# Altium footprint library Connector.PcbLib: 23 footprints (part 1 of 2)
Each footprint in its own frame and in the unit in brackets; x right, y up, seen from the top. Pads: shape width x height; smd on the part's side, far side on the other; paste and mask are expansions set on the pad; w line width, h text height; cw(c..) or ccw(c..) is an arc to the next point about the centre after c.
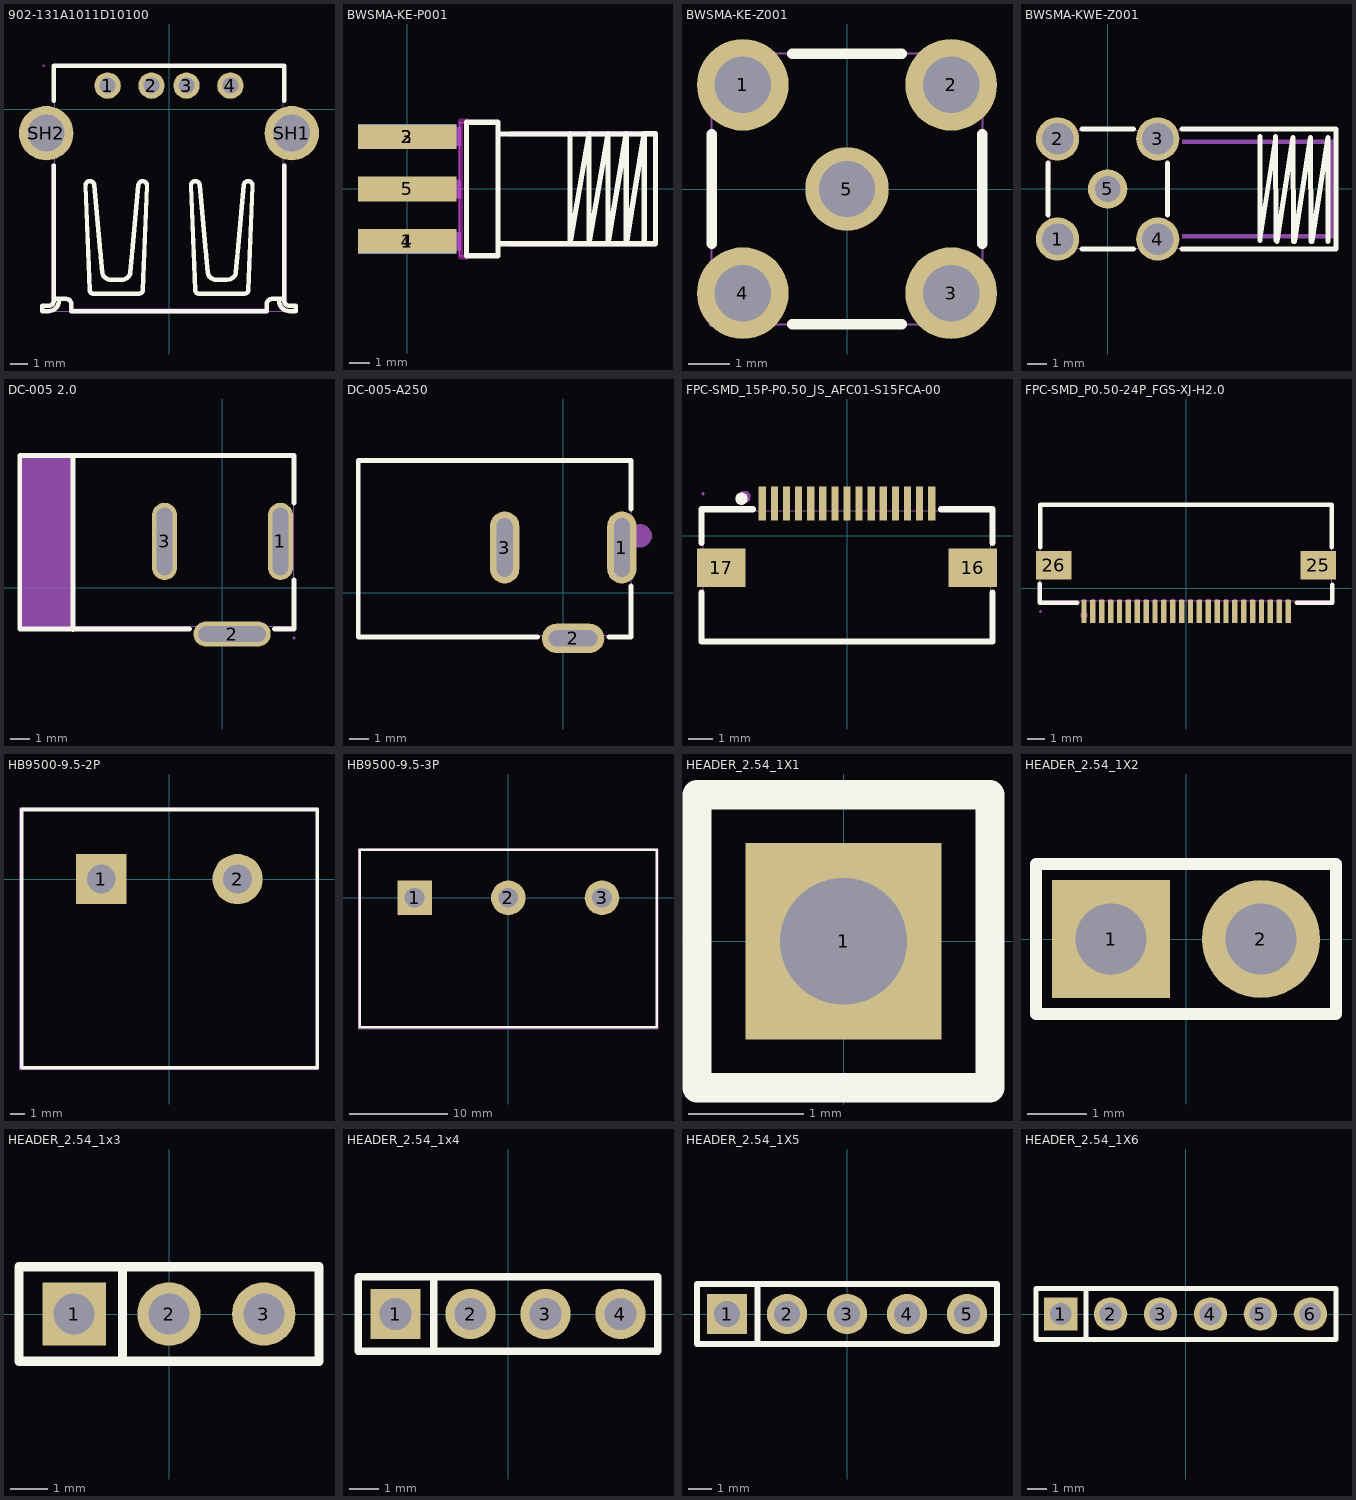
[diagram p0: the footprints below, top view; thin cyan lines are the x and y axes]

## 902-131A1011D10100 [mm]
pads (6):
  round 1.5 hole 0.9 copper offset 0,0: 1(-3.5,1.355) 4(3.5,1.355)
  round 1.5 hole 0.9: 2(-1,1.355) 3(1,1.355)
  round 3.1 hole 2.1: SH1(7,-1.355) SH2(-7,-1.355)
Top Overlay:
  drawing of 192 lines, arcs and shapes, not listed
Mechanical 6:
  region: -6.697,-10.9 -6.697,-3.2 -6.697,-3.147 -6.622,-3.073 -6.517,-3.073 -6.443,-3.147 -6.443,-3.2 -6.443,-10.9 -6.443,-10.953 -6.517,-11.027 -6.622,-11.027 -6.697,-10.953
  region: -5.563,-11.378 0,-11.378 0.053,-11.378 0.127,-11.453 0.127,-11.558 0.053,-11.632 0,-11.632 -5.563,-11.632 -5.615,-11.632 -5.69,-11.558 -5.69,-11.453 -5.615,-11.378
  region: 5.563,-11.632 0,-11.632 -0.053,-11.632 -0.127,-11.558 -0.127,-11.453 -0.053,-11.378 0,-11.378 5.563,-11.378 5.616,-11.378 5.69,-11.453 5.69,-11.558 5.616,-11.632
  region: 6.443,-10.9 6.443,-3.2 6.443,-3.147 6.517,-3.073 6.623,-3.073 6.697,-3.147 6.697,-3.2 6.697,-10.9 6.697,-10.953 6.623,-11.027 6.517,-11.027 6.443,-10.953
Mechanical 15:
  region: -7.15,-0.505 -7.15,-2.205 -6.495,-2.205 -6.495,-0.505
  region: 7.15,-0.505 7.15,-2.205 6.495,-2.205 6.495,-0.505
  region: -6.85,-0.505 -6.85,-2.205 -7.15,-2.205 -7.15,-0.505
  region: 7.15,-0.505 7.15,-2.205 6.85,-2.205 6.85,-0.505
  region: -3.25,1.23 -3.75,1.23 -3.75,1.48 -3.25,1.48
  region: -0.75,1.23 -1.25,1.23 -1.25,1.48 -0.75,1.48
  region: 1.25,1.23 0.75,1.23 0.75,1.48 1.25,1.48
  region: 3.75,1.23 3.25,1.23 3.25,1.48 3.75,1.48
  region: -7.09,2.495 -7.09,2.52 -7.125,2.555 -7.175,2.555 -7.21,2.519 -7.21,2.495 -7.21,2.47 -7.175,2.435 -7.125,2.435 -7.09,2.47
  lines w0.051: -6.5,-11.505 6.5,-11.505 6.5,2.495 -6.5,2.495 -6.5,-11.505
3D body "902-131A1011D10100.STEP": height 7.6, standoff -3.75, extent -7.774,-11.5 7.774,2.5

## BWSMA-KE-P001 [mm]
pads (5):
  rect 4.8x1.2 smd: 1(0,-2.55) 2(0,2.55) 5(0,0)
  rect 4.8x1.2 smd far side: 3(0,2.55) 4(0,-2.55)
Top Overlay:
  lines w0.254: 2.894,-3.25 4.418,-3.25 4.418,3.25 2.894,3.25 2.894,-3.175 ; 4.418,-2.667 11.546,-2.667 ; 4.418,2.669 11.546,2.689 ; 7.935,2.689 7.935,-2.667 8.86,2.689 8.86,-2.667 9.786,2.689 9.786,-2.667 10.675,2.689 10.675,-2.667 11.546,2.689 ; 12.1,-2.68 12.1,2.7 12.089,2.689 11.546,2.689 ; 12.1,-2.667 11.546,-2.667 ; 11.546,-2.667 11.546,2.689
Keep-Out Layer:
  lines w0.254: 2.6,-3.3 2.9,-3.3 2.6,-3.3 ; 2.6,-3.3 2.6,3.3 ; 2.6,-3.3 2.6,3.3 ; 2.6,3.3 2.9,3.3 2.6,3.3
Mechanical 6:
  region: 5.03,2.81 5.03,2.57 11.98,2.57 11.98,-2.55 5.03,-2.55 5.03,-2.79 12.1,-2.79 12.22,-2.67 12.22,2.72 12.13,2.81
Mechanical 15:
  region: -1.4,3 2.6,3 2.6,2.1 -1.4,2.1
  region: -1.4,0.45 2.6,0.45 2.6,-0.45 -1.4,-0.45
  region: -1.4,-2.1 2.6,-2.1 2.6,-3 -1.4,-3
  region: -1.4,3 2.6,3 2.6,2.1 -1.4,2.1
  region: -1.4,-2.1 2.6,-2.1 2.6,-3 -1.4,-3
  region: 4.478,-3.25 4.477,-3.226 4.442,-3.193 4.394,-3.193 4.359,-3.226 4.358,-3.25 4.359,-3.274 4.394,-3.308 4.442,-3.308 4.477,-3.274
  lines w0.051: 2.55,-3.25 2.55,3.25 4.418,3.25 4.418,-3.25 2.55,-3.25
3D body "BWSMA-KE-P001.STEP": height 4.95, standoff -1.55, extent -1.25,-3.25 12.25,3.251

## BWSMA-KE-Z001 [mm]
pads (5):
  round 2.2 hole 1.35: 1(-2.5,2.5) 2(2.5,2.5) 3(2.5,-2.5) 4(-2.5,-2.5)
  round 2 hole 1.35: 5(0,0)
Top Overlay:
  lines w0.254: -3.25,-1.316 -3.25,1.316 ; -1.316,-3.25 1.316,-3.25 ; -1.316,3.25 1.316,3.25 ; 3.25,-1.316 3.25,1.316
Mechanical 15:
  region: -3.19,-3.25 -3.191,-3.226 -3.226,-3.193 -3.274,-3.193 -3.309,-3.226 -3.31,-3.25 -3.309,-3.274 -3.274,-3.307 -3.226,-3.307 -3.191,-3.274
  region: 0.425,0 0.424,0.084 0.359,0.239 0.24,0.358 0.084,0.422 -0.084,0.422 -0.24,0.358 -0.359,0.239 -0.425,0.084 -0.425,0 -0.425,-0.084 -0.359,-0.239 -0.24,-0.358 -0.084,-0.422 0.084,-0.422 0.24,-0.358 0.359,-0.239 0.424,-0.084
  region: 2.1,-2.1 3,-2.1 3,-3 2.1,-3
  region: 2.1,3 3,3 3,2.1 2.1,2.1
  region: -3,3 -2.1,3 -2.1,2.1 -3,2.1
  region: -3,-2.1 -2.1,-2.1 -2.1,-3 -3,-3
  lines w0.051: -3.25,-3.25 3.25,-3.25 3.25,3.25 -3.25,3.25 -3.25,-3.25
3D body "BWSMA-KE-Z001.STEP": height 10.15, standoff -3.45, extent -3.25,-3.25 3.25,3.251

## BWSMA-KWE-Z001 [mm]
pads (5):
  round 2.2 hole 1.6: 1(-2.55,-2.55) 2(-2.55,2.55) 3(2.55,2.55)
  round 2.2 hole 1.6 copper offset 0,0: 4(2.55,-2.55)
  round 2 hole 1.3: 5(0,0)
Top Overlay:
  lines w0.254: -3.048,-1.316 -3.048,1.316 ; -1.316,-3.048 1.316,-3.048 ; -1.316,3.048 1.316,3.048 ; 3.048,-1.316 3.048,1.316 ; 3.784,-3.048 11.63,-3.048 ; 3.784,3.048 11.6,3.048 ; 7.747,2.667 7.747,-2.633 8.56,2.667 8.566,-2.633 ; 8.636,-2.667 9.449,2.633 9.455,-2.667 ; 9.525,-2.667 10.338,2.633 10.344,-2.667 ; 10.414,-2.667 11.227,2.633 11.233,-2.667 ; 11.63,-3 11.63,-2.62 11.63,2.68 11.63,3.048
Mechanical 6:
  region: 3.8,2.5 11.5,2.5 11.5,2.3 3.8,2.3
  region: 3.8,-2.5 11.5,-2.5 11.5,-2.3 3.8,-2.3
  region: 11.5,2.3 11.5,-2.3 11.3,-2.3 11.3,2.3
Mechanical 15:
  region: -2.94,-3.017 -2.941,-2.993 -2.976,-2.959 -3.024,-2.959 -3.059,-2.993 -3.06,-3.017 -3.059,-3.041 -3.024,-3.075 -2.976,-3.075 -2.941,-3.041
  region: 0.45,0 0.449,0.089 0.379,0.252 0.253,0.377 0.089,0.444 -0.089,0.444 -0.253,0.377 -0.379,0.252 -0.449,0.089 -0.45,0 -0.449,-0.089 -0.379,-0.252 -0.253,-0.376 -0.089,-0.444 0.089,-0.444 0.253,-0.376 0.379,-0.252 0.449,-0.089
  region: -3,3 -2.1,3 -2.1,2.1 -3,2.1
  region: -3,-2.1 -2.1,-2.1 -2.1,-3 -3,-3
  region: 2.1,-2.1 3,-2.1 3,-3 2.1,-3
  region: 2.1,3 3,3 3,2.1 2.1,2.1
  lines w0.051: -2.941,-3.017 11.591,-3.017 11.591,2.996 -2.932,2.996 -2.941,-2.538 -2.941,-3.017
3D body "BWSMA-KWE-Z001.STEP": height 9.72, standoff -3.45, extent -3,-3.175 11.5,3.175

## DC-005 2.0 [mm]
pads (3):
  oval 1.3x4 hole 0.8 slot 3.5 at 90 deg: 1(3,2.4) 3(-3,2.4)
  oval 4x1.3 hole 0.8 slot 3.5 at 0 deg: 2(0.5,-2.4)
Top Overlay:
  lines w0.254: -10.5,6.845 -10.5,-2.147 -2.335,-2.147 -1.702,-2.147 ; -10.5,6.853 3.7,6.853 3.7,4.388 ; -7.744,-2.155 -7.744,6.845 ; 2.702,-2.147 3.7,-2.147 3.7,0.412
Mechanical 6:
  region: -10.541,6.858 -7.747,6.858 -7.747,-2.159 -10.541,-2.159
Mechanical 15:
  region: 3.15,3.65 3.15,1.15 2.85,1.15 2.85,3.65
  region: -3.15,1.15 -3.15,3.65 -2.85,3.65 -2.85,1.15
  region: -0.75,-2.2 1.75,-2.2 1.75,-2.6 -0.75,-2.6
  region: -0.75,-2.6 1.75,-2.6 1.75,-1.9 -0.75,-1.9
  region: 3.76,-2.6 3.759,-2.576 3.724,-2.542 3.676,-2.542 3.641,-2.576 3.64,-2.6 3.641,-2.624 3.676,-2.658 3.724,-2.658 3.759,-2.624
  lines w0.051: -10.5,-2 3.7,-2 3.7,6.8 -10.5,6.8 -10.5,-2
3D body "DC-005 2.0.STEP": height 11.05, standoff -3.75, extent -10.25,-2.425 3.75,6.925

## DC-005-A250 [mm]
pads (3):
  oval 1.5x3.7 hole 0.8 slot 3 at 90 deg paste+0 mask+0.05: 1(3,2.325) 3(-3,2.325)
  oval 3.2x1.5 hole 0.8 slot 2.5 at 0 deg paste+0 mask+0.05: 2(0.5,-2.325)
Top Overlay:
  lines w0.254: -1.328,-2.247 -10.5,-2.247 -10.5,6.77 3.47,6.77 3.47,4.286 ; 2.328,-2.247 3.47,-2.247 3.47,0.364
Mechanical 6:
  circle w0.6: c3.937,2.921 r0.3
Mechanical 15:
  region: 3.547,6.825 3.547,6.85 3.512,6.885 3.463,6.885 3.427,6.85 3.427,6.825 3.427,6.8 3.463,6.765 3.512,6.765 3.548,6.8
  region: -3.15,3.575 -2.85,3.575 -2.85,1.075 -3.15,1.075
  region: 2.85,3.575 3.15,3.575 3.15,1.075 2.85,1.075
  region: -0.5,-2.172 1.5,-2.172 1.5,-2.472 -0.5,-2.472
  lines w0.051: -10.512,-2.175 -10.512,6.825 3.488,6.825 3.488,-2.175 -10.512,-2.175
3D body "DC-005-A250.STEP": height 11.05, standoff -3.95, extent -10.5,-2.4 3.5,6.9

## FPC-SMD_15P-P0.50_JS_AFC01-S15FCA-00 [mm]
pads (17):
  rect 0.3x1.4 smd paste+0 mask+0.05: 1(-3.5,1.325) 2(-3,1.325) 3(-2.5,1.325) 4(-2,1.325) 5(-1.5,1.325) 6(-1,1.325) 7(-0.5,1.325) 8(0,1.325) 9(0.5,1.325) 10(1,1.325) 11(1.5,1.325) 12(2,1.325) 13(2.5,1.325) 14(3,1.325) 15(3.5,1.325)
  rect 2x1.6 smd: 16(5.2,-1.325) 17(-5.2,-1.325)
Top Overlay:
  circle w0.254: c-4.362,1.524 r0.127
  lines w0.254: -6.013,-2.356 -6.013,-4.373 6.013,-4.373 6.013,-2.356 6.013,-2.491 ; -6.013,-0.294 -6.013,1.088 -3.881,1.088 ; 3.881,1.088 6.013,1.088 6.013,-0.294
Mechanical 6:
  circle w0.254: c-4.234,1.598 r0.127
Mechanical 15:
  region: -4.45,-0.825 -4.45,-1.825 -5.95,-1.825 -5.95,-0.825
  region: 5.95,-0.825 5.95,-1.825 4.45,-1.825 4.45,-0.825
  region: 3.6,0.727 3.4,0.727 3.4,1.727 3.6,1.727
  region: 3.1,0.727 2.9,0.727 2.9,1.727 3.1,1.727
  region: 2.6,0.727 2.4,0.727 2.4,1.727 2.6,1.727
  region: 2.1,0.727 1.9,0.727 1.9,1.727 2.1,1.727
  region: 1.6,0.727 1.4,0.727 1.4,1.727 1.6,1.727
  region: 1.1,0.727 0.9,0.727 0.9,1.727 1.1,1.727
  region: 0.6,0.727 0.4,0.727 0.4,1.727 0.6,1.727
  region: 0.1,0.727 -0.1,0.727 -0.1,1.727 0.1,1.727
  region: -0.4,0.727 -0.6,0.727 -0.6,1.727 -0.4,1.727
  region: -0.9,0.727 -1.1,0.727 -1.1,1.727 -0.9,1.727
  region: -1.4,0.727 -1.6,0.727 -1.6,1.727 -1.4,1.727
  region: -1.9,0.727 -2.1,0.727 -2.1,1.727 -1.9,1.727
  region: -2.4,0.727 -2.6,0.727 -2.6,1.727 -2.4,1.727
  region: -2.9,0.727 -3.1,0.727 -3.1,1.727 -2.9,1.727
  region: -3.4,0.727 -3.6,0.727 -3.6,1.727 -3.4,1.727
  region: -5.89,1.727 -5.891,1.752 -5.926,1.786 -5.975,1.786 -6.01,1.752 -6.01,1.727 -6.01,1.703 -5.975,1.668 -5.926,1.668 -5.891,1.703 -5.89,1.727
  lines w0.051: -5.95,-4.373 5.95,-4.373 5.95,1.027 -5.95,1.027 -5.95,-4.373
3D body "AFC01-S15FCA-00.STEP": height 2.02, standoff 0, extent -5.95,-4.392 5.95,1.708

## FPC-SMD_P0.50-24P_FGS-XJ-H2.0 [mm]
pads (26):
  rect 0.3x1.3 smd: 1(-5.748,-1.301) 2(-5.248,-1.301) 3(-4.748,-1.301) 4(-4.248,-1.301) 5(-3.748,-1.301) 6(-3.248,-1.301) 7(-2.748,-1.301) 8(-2.248,-1.301) 9(-1.748,-1.301) 10(-1.248,-1.301) 11(-0.748,-1.301) 12(-0.248,-1.301) 13(0.252,-1.301) 14(0.752,-1.301) 15(1.252,-1.301) 16(1.752,-1.301) 17(2.252,-1.301) 18(2.752,-1.301) 19(3.252,-1.301) 20(3.752,-1.301) 21(4.252,-1.301) 22(4.752,-1.301) 23(5.252,-1.301) 24(5.752,-1.301)
  rect 2x1.6 smd: 25(7.45,1.301) 26(-7.45,1.301)
Top Overlay:
  lines w0.254: -8.25,0.27 -8.25,-0.8 -6.129,-0.8 ; -8.199,2.332 -8.199,4.701 8.199,4.701 ; 6.25,-0.8 8.25,-0.8 8.25,0.2 ; 8.2,2.332 8.2,4.701
Mechanical 6:
  circle w0.2: c-5.75,-1.5 r0.1
Mechanical 15:
  region: 8.198,2.051 8.198,0.551 6.898,0.551 6.898,2.051
  region: -8.198,0.551 -8.198,2.051 -6.898,2.051 -6.898,0.551
  region: 5.653,-1.301 5.653,-0.601 5.853,-0.601 5.853,-1.301
  region: 5.152,-1.301 5.152,-0.601 5.352,-0.601 5.352,-1.301
  region: 4.652,-1.301 4.652,-0.601 4.852,-0.601 4.852,-1.301
  region: 4.152,-1.301 4.152,-0.601 4.352,-0.601 4.352,-1.301
  region: 3.652,-1.301 3.652,-0.601 3.852,-0.601 3.852,-1.301
  region: 3.152,-1.301 3.152,-0.601 3.352,-0.601 3.352,-1.301
  region: 2.652,-1.301 2.652,-0.601 2.852,-0.601 2.852,-1.301
  region: 2.153,-1.301 2.153,-0.601 2.353,-0.601 2.353,-1.301
  region: 1.152,-1.301 1.152,-0.601 1.352,-0.601 1.352,-1.301
  region: 1.652,-1.301 1.652,-0.601 1.852,-0.601 1.852,-1.301
  region: 0.652,-1.301 0.652,-0.601 0.852,-0.601 0.852,-1.301
  region: 0.152,-1.301 0.152,-0.601 0.352,-0.601 0.352,-1.301
  region: -0.347,-1.301 -0.347,-0.601 -0.147,-0.601 -0.147,-1.301
  region: -0.847,-1.301 -0.847,-0.601 -0.647,-0.601 -0.647,-1.301
  region: -1.348,-1.301 -1.348,-0.601 -1.148,-0.601 -1.148,-1.301
  region: -1.848,-1.301 -1.848,-0.601 -1.648,-0.601 -1.648,-1.301
  region: -2.347,-1.301 -2.347,-0.601 -2.147,-0.601 -2.147,-1.301
  region: -2.847,-1.301 -2.847,-0.601 -2.647,-0.601 -2.647,-1.301
  region: -3.348,-1.301 -3.348,-0.601 -3.148,-0.601 -3.148,-1.301
  region: -3.848,-1.301 -3.848,-0.601 -3.648,-0.601 -3.648,-1.301
  region: -4.348,-1.301 -4.348,-0.601 -4.148,-0.601 -4.148,-1.301
  region: -4.847,-1.301 -4.847,-0.601 -4.647,-0.601 -4.647,-1.301
  region: -5.347,-1.301 -5.347,-0.601 -5.147,-0.601 -5.147,-1.301
  region: -5.848,-1.301 -5.848,-0.601 -5.648,-0.601 -5.648,-1.301
  region: -8.14,-1.301 -8.14,-1.276 -8.175,-1.241 -8.225,-1.241 -8.26,-1.276 -8.26,-1.301 -8.26,-1.326 -8.225,-1.361 -8.175,-1.361 -8.14,-1.326
  lines w0.051: -8.2,-0.7 -8.2,4.7 8.2,4.7 8.2,-0.7 -8.2,-0.7
3D body "AFC01-S24FCA-00.STEP": height 2.01, standoff 0, extent -8.1,-1.55 8.1,4.45

## HB9500-9.5-2P [mm]
pads (2):
  rect 3.5x3.5 hole 2: 1(-4.75,0)
  round 3.5 hole 2: 2(4.75,0)
Top Overlay:
  lines w0.254: -10.3,-13.15 10.3,-13.15 10.3,4.85 -10.3,4.85 -10.3,-13.15
Mechanical 15:
  region: 5.65,0 5.65,0.118 5.589,0.347 5.47,0.553 5.303,0.72 5.097,0.839 4.869,0.9 4.632,0.9 4.403,0.839 4.197,0.72 4.03,0.553 3.911,0.347 3.85,0.119 3.85,0 3.85,-0.118 3.911,-0.347 4.03,-0.553 4.197,-0.72 4.403,-0.839 4.632,-0.9 4.868,-0.9 5.097,-0.839 5.303,-0.72 5.47,-0.553 5.589,-0.347 5.65,-0.118
  region: -3.85,0 -3.85,0.118 -3.911,0.347 -4.03,0.553 -4.197,0.72 -4.403,0.839 -4.632,0.9 -4.869,0.9 -5.097,0.839 -5.303,0.72 -5.47,0.553 -5.589,0.347 -5.65,0.119 -5.65,0 -5.65,-0.118 -5.589,-0.347 -5.47,-0.553 -5.303,-0.72 -5.098,-0.839 -4.869,-0.9 -4.632,-0.9 -4.403,-0.839 -4.197,-0.72 -4.03,-0.553 -3.911,-0.347 -3.85,-0.118
  region: -10.367,-13.277 -10.367,-13.252 -10.402,-13.217 -10.452,-13.217 -10.487,-13.252 -10.487,-13.277 -10.487,-13.302 -10.452,-13.337 -10.402,-13.337 -10.367,-13.302
  lines w0.051: -10.427,-13.277 10.427,-13.277 10.427,4.977 -10.427,4.977 -10.427,-13.277
3D body "HB9500-9.5-2P.STEP": height 14.6, standoff -6.3, extent -11.3,-13.25 11.3,4.75

## HB9500-9.5-3P [mm]
pads (3):
  rect 3.5x3.5 hole 2: 1(-9.5,0)
  round 3.5 hole 2: 2(0,0) 3(9.5,0)
Top Overlay:
  lines w0.254: -15.05,-13.15 -15.05,4.85 15.05,4.85 15.05,-13.15 -15.05,-13.15
Mechanical 15:
  region: -15.117,-13.277 -15.118,-13.253 -15.153,-13.22 -15.201,-13.22 -15.236,-13.253 -15.237,-13.277 -15.236,-13.301 -15.201,-13.334 -15.153,-13.334 -15.118,-13.301
  region: -8.6,0 -8.601,0.118 -8.663,0.346 -8.782,0.549 -8.95,0.716 -9.154,0.833 -9.382,0.894 -9.618,0.894 -9.846,0.833 -10.051,0.716 -10.218,0.549 -10.337,0.346 -10.399,0.118 -10.4,0 -10.399,-0.118 -10.337,-0.346 -10.218,-0.549 -10.051,-0.716 -9.846,-0.833 -9.618,-0.894 -9.382,-0.894 -9.154,-0.833 -8.95,-0.716 -8.782,-0.549 -8.663,-0.346 -8.601,-0.118
  region: 0.9,0 0.899,0.118 0.837,0.346 0.718,0.549 0.551,0.716 0.346,0.833 0.118,0.894 -0.118,0.894 -0.346,0.833 -0.551,0.716 -0.718,0.549 -0.837,0.346 -0.899,0.118 -0.9,0 -0.899,-0.118 -0.837,-0.346 -0.718,-0.549 -0.551,-0.716 -0.346,-0.833 -0.118,-0.894 0.118,-0.894 0.346,-0.833 0.551,-0.716 0.718,-0.549 0.837,-0.346 0.899,-0.118
  region: 10.4,0 10.399,0.118 10.337,0.346 10.218,0.549 10.05,0.716 9.846,0.833 9.618,0.894 9.382,0.894 9.154,0.833 8.949,0.716 8.782,0.549 8.663,0.346 8.601,0.118 8.6,0 8.601,-0.118 8.663,-0.346 8.782,-0.549 8.949,-0.716 9.154,-0.833 9.382,-0.894 9.618,-0.894 9.846,-0.833 10.05,-0.716 10.218,-0.549 10.337,-0.346 10.399,-0.118
  lines w0.051: -15.177,-13.277 -15.177,4.977 15.177,4.977 15.177,-13.277 -15.177,-13.277
3D body "HB9500-9.5-3P.STEP": height 14.6, standoff -6.3, extent -16.05,-13.25 16.05,4.75

## HEADER_2.54_1X1 [mm]
pads (1):
  rect 1.7x1.7 hole 1.1: 1(0,0)
Top Overlay:
  lines w0.254: -1.27,-1.27 -1.27,1.27 1.27,1.27 1.27,-1.27 -1.27,-1.27
Mechanical 15:
  region: -0.325,-0.325 -0.325,0.325 0.325,0.325 0.325,-0.325
  region: 1.33,1.25 1.329,1.274 1.294,1.309 1.246,1.309 1.211,1.274 1.21,1.25 1.211,1.225 1.246,1.191 1.294,1.191 1.329,1.225
  lines w0.051: -1.27,-1.25 1.27,-1.25 1.27,1.25 -1.27,1.25 -1.27,-1.25
3D body "HEADER-2.54-1x1.STEP": height 8.5, standoff -3, extent -1.27,-1.27 1.27,1.28

## HEADER_2.54_1X2 [mm]
pads (2):
  rect 2x2 hole 1.2: 1(-1.27,0)
  round 2 hole 1.2: 2(1.27,0)
Top Overlay:
  lines w0.203: -2.54,-1.27 -2.54,1.27 -0.635,1.27 2.54,1.27 2.54,-1.27 -2.54,-1.27
3D body "2-Pin Header - Male - 2.54mm.step": height 8.89, standoff -3.05, extent -2.54,-1.27 2.54,1.27

## HEADER_2.54_1x3 [mm]
pads (3):
  rect 1.7x1.7 hole 1.1: 1(-2.54,0)
  round 1.7 hole 1.1: 2(0,0) 3(2.54,0)
Top Overlay:
  lines w0.254: -1.246,-1.27 -1.246,1.27 ; -4.02,-1.27 4.02,-1.27 4.02,1.27 -4.02,1.27 -4.02,-1.27
3D body "3-Pin Header - Male - 2.54mm.step": height 8.89, standoff -3.05, extent -3.81,-1.27 3.81,1.27

## HEADER_2.54_1x4 [mm]
pads (4):
  rect 1.7x1.7 hole 1.1: 1(-3.81,0)
  round 1.7 hole 1.1: 2(-1.27,0) 3(1.27,0) 4(3.81,0)
Top Overlay:
  lines w0.254: -2.516,-1.27 -2.516,1.27 ; -2.516,1.27 5.08,1.27 5.08,-1.27 -5.08,-1.27 -5.08,1.27 -2.516,1.27
3D body "4-Pin Header - Male - 2.54mm.step": height 8.89, standoff -3.05, extent -5.08,-1.27 5.08,1.27

## HEADER_2.54_1X5 [mm]
pads (5):
  rect 1.7x1.7 hole 1.1: 1(-5.08,0)
  round 1.7 hole 1.1: 2(-2.54,0) 3(0,0) 4(2.54,0) 5(5.08,0)
Top Overlay:
  lines w0.254: -3.786,-1.27 -3.786,1.27 ; -6.35,-1.27 6.35,-1.27 6.35,1.27 -6.35,1.27 -6.35,-1.27
3D body "5-Pin Header - Male - 2.54mm.step": height 8.89, standoff -3.05, extent -6.35,-1.27 6.35,1.27

## HEADER_2.54_1X6 [mm]
pads (6):
  rect 1.7x1.7 hole 1.1: 1(-6.35,0)
  round 1.7 hole 1.1: 2(-3.81,0) 3(-1.27,0) 4(1.27,0) 5(3.81,0) 6(6.35,0)
Top Overlay:
  lines w0.254: -5.056,-1.27 -5.056,1.27 ; -7.6,-1.3 7.65,-1.3 7.65,1.3 -7.6,1.3 -7.6,-1.3
3D body "6-Pin Header - Male - 2.54mm.step": height 8.89, standoff -3.05, extent -7.62,-1.27 7.62,1.27